# EAGLE library part TPS5450 (library _mtvl.power)
TPS5450 5-A, Wide Input Range, Step-Down Converter Datasheet <https://static.chipdip.ru/lib/928/DOC012928978.pdf>
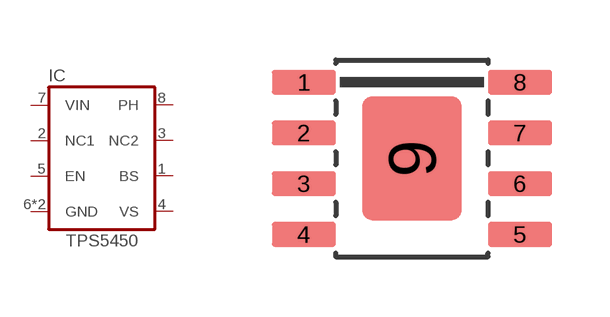
[diagram p22: symbol with the pads of SOIC8N; footprint SOIC8N]

Designator prefix IC

## TPS5450DDAR  [SOIC8N]
1  BS  pas
2  NC1  pas
3  NC2  pas
4  VS  in
5  EN  pas
6  GND  pas
7  VIN  in
8  PH  out
9  GND  pas

## Footprint SOIC8N (pad centres in mm)
Small Outline IC with Power Pad
smd 1.6 x 0.61: 1 -2.705,1.905; 2 -2.705,0.635; 3 -2.705,-0.635; 4 -2.705,-1.905; 5 2.705,-1.905; 6 2.705,-0.635; 7 2.705,0.635; 8 2.705,1.905
smd 2.49 x 3.1: 9 0,0